# Altium footprint library CapRadial.PcbLib: 2 footprints
Each footprint in its own frame and in the unit in brackets; x right, y up, seen from the top. Pads: shape width x height; smd on the part's side, far side on the other; paste and mask are expansions set on the pad; w line width, h text height; cw(c..) or ccw(c..) is an arc to the next point about the centre after c.
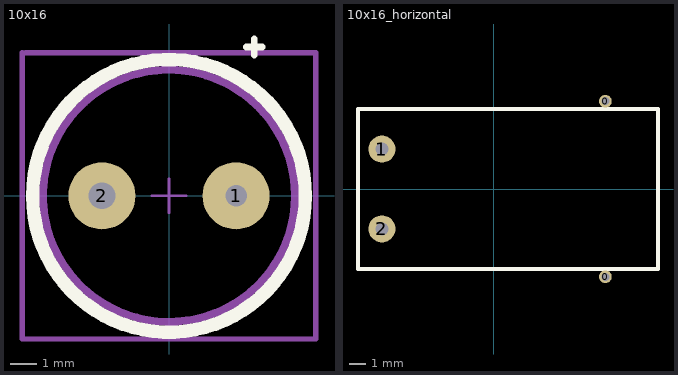
[diagram p0: the footprints below, top view; thin cyan lines are the x and y axes]

## 10x16 [mm]
pads (2):
  round 2.5 hole 0.8: 1(2.5,0)
  round 2.5 hole 1: 2(-2.5,0)
Top Overlay:
  circle w0.5: c0,0 r5.08
  lines w0.254: 2.875,5.542 3.475,5.542 ; 3.175,5.242 3.175,5.842
Mechanical 13:
  circle w0.3: c0,0 r4.699
Mechanical 15:
  lines w0.1: -0.635,0 0.635,0 ; 0,-0.635 0,0.635
  lines w0.2: -5.461,5.334 -5.461,-5.334 5.461,-5.334 5.461,5.334 -5.334,5.334
3D body "User Library-Cap electrolitic radial 10x16.STEP": height 16.8, standoff -0.7, extent -4.998,-5 4.998,4.999

## 10x16_horizontal [mm]
pads (4):
  round 0.8 hole 0.5: 0(7,-5.5) 0(7,5.5)
  round 1.7 hole 0.8: 1(-7,2.5) 2(-7,-2.5)
Top Overlay:
  lines w0.254: -8.5,-5 -7.2,-5 10.3,-5 10.3,5 -8.5,5 -8.5,-5
3D body "User Library-Cap electrolitic radial 10x16.STEP": height 10.1, standoff 0.1, extent -7.2,-4.998 10.3,4.998